# EAGLE library part TPS25740 (library borkedlabs-powerics)
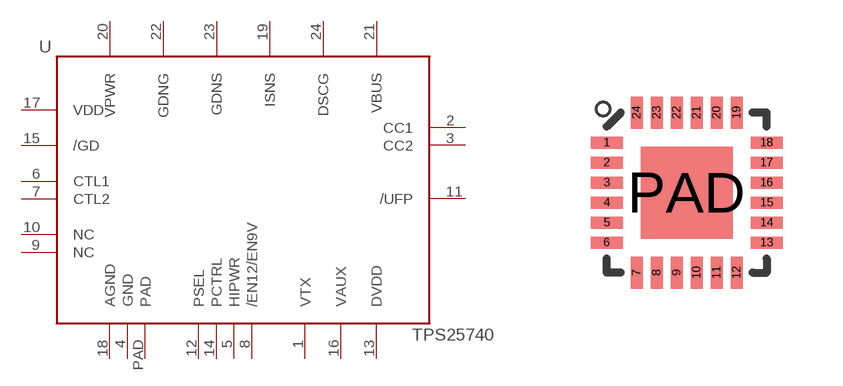
[diagram p9: symbol with the pads of QFN24-4X4; footprint QFN24-4X4]

Designator prefix U

## TPS25740 (MPN: TPS25740RGER; PACKAGE: QFN24-4X4)  [QFN24-4X4]
1  VTX
2  CC1
3  CC2
4  GND
5  HIPWR
6  CTL1
7  CTL2
8  /EN12/EN9V
9  NC
10  NC  nc
11  /UFP
12  PSEL
13  DVDD
14  PCTRL
15  /GD
16  VAUX
17  VDD
18  AGND
19  ISNS
20  VPWR
21  VBUS
22  GDNG
23  GDNS
24  DSCG
PAD  PAD

## Footprint QFN24-4X4 (pad centres in mm)
smd 0.8 x 0.3: 1 -2,1.25; 2 -2,0.75; 3 -2,0.25; 4 -2,-0.25; 5 -2,-0.75; 6 -2,-1.25; 13 2,-1.25; 14 2,-0.75; 15 2,-0.25; 16 2,0.25; 17 2,0.75; 18 2,1.25
smd 0.3 x 0.8: 7 -1.25,-2; 8 -0.75,-2; 9 -0.25,-2; 10 0.25,-2; 11 0.75,-2; 12 1.25,-2; 19 1.25,2; 20 0.75,2; 21 0.25,2; 22 -0.25,2; 23 -0.75,2; 24 -1.25,2
smd 2.3 x 2.3: PAD 0,0